# EAGLE library part TPS79633 (library slom)
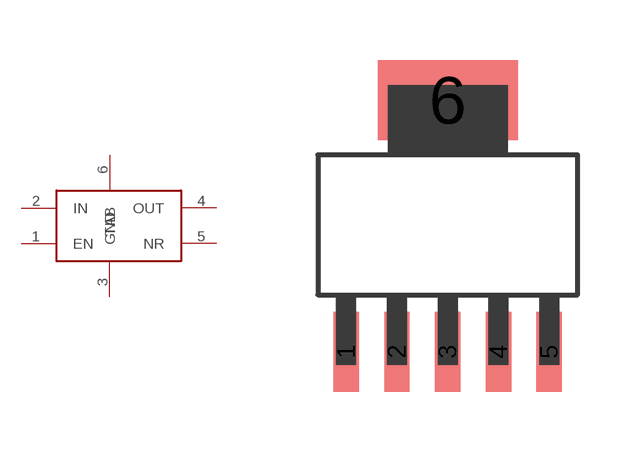
[diagram p5: symbol with the pads of SOT-233-6; footprint SOT-233-6]

Designator prefix -

## TPS79633  [SOT-233-6]
1  EN
2  IN
3  GND
4  OUT
5  NR
6  TAB

## Footprint SOT-233-6 (pad centres in mm)
smd 0.635 x 2: 1 -2.54,-3.175; 2 -1.27,-3.175; 3 0,-3.175; 4 1.27,-3.175; 5 2.54,-3.175
smd 3.5 x 2: 6 0,3.125